# Altium schematic symbol library Inductor.SchLib: 1 symbol
Pins are listed as number, name and electrical type; pins without a type are passive.

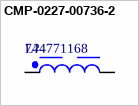
[diagram p0: symbol CMP-0227-00736-2]

## CMP-0227-00736-2
designator L?, comment 744771168
NexarPartId: 8917134; Max DC Current: 1.91A; Shielding: Shielded; Series Resistance: 120mΩ; DC Resistance (DCR): 86mΩ; Core Material: Ferrite; Saturation Current: 2.19A; Inductance: 68µH; Current Rating: 2A; Self Resonant Frequency: 6MHz; Test Frequency: 1kHz; Tolerance: 20%; REACH SVHC: Unknown; Width: 12mm; RoHS: Compliant; Height - Seated (Max): 5.9944mm; Min Operating Temperature: -40°C; Max Operating Temperature: 125°C; Weight: 4.535924g; Mount: Surface Mount; Resistance: 120mΩ; Number of Pins: 2; Depth: 12mm; Case/Package: Nonstandard; Height: 6mm; RMS Current (Irms): 1.91A; Composition: Wirewound; Lead Free: Lead Free; Length: 12mm; Inductance Tolerance: 20%; Ambient Temperature Range High: 85°C; Packaging: Tape & Reel (TR); Termination: SMD/SMT; Ambient Temperature Range Low: -40°C
footprint WE-PD_1260 (SMT Shielded Power Inductor, 2-leads, body 12x12mm)
pins: 1, 2